# EAGLE library part IP175G (library IP175G)
5 Port 10/100 Ethernet Integrated Switch (85nm /Extreme Low Power, PWMT and AFT ) Source: Datasheet
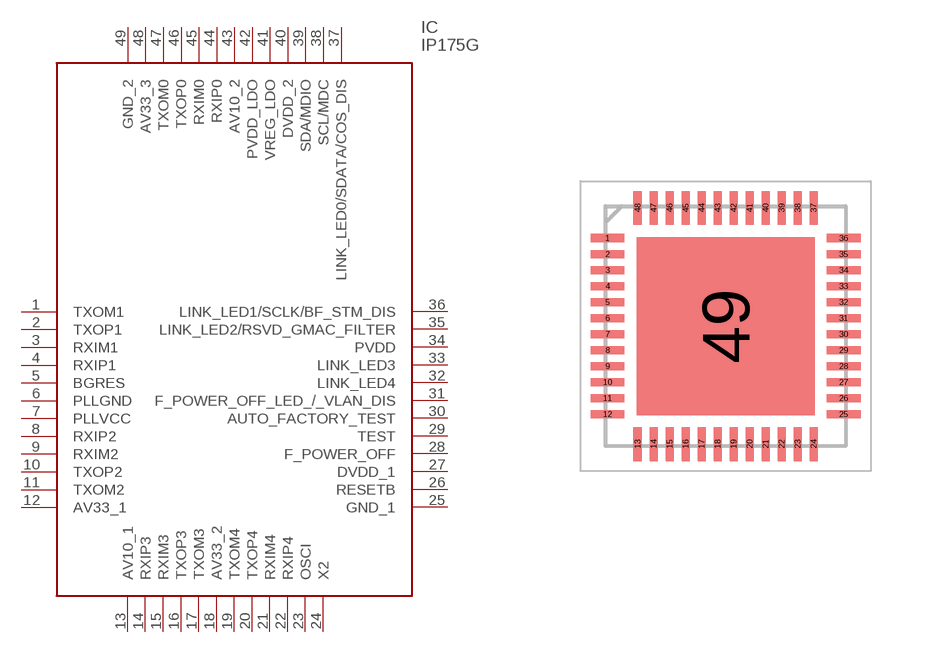
[diagram p0: symbol with the pads of QFN40P600X600X90-49N; footprint QFN40P600X600X90-49N]

Designator prefix IC

## IP175G (Description: 5 Port 10/100 Ethernet Integrated Switch (85nm /Extreme Low Power, PWMT and AFT ); Height: 0.9mm; Manufacturer_Name: IC+; Manufacturer_Part_Number: IP175G)  [QFN40P600X600X90-49N]
1  TXOM1
2  TXOP1
3  RXIM1
4  RXIP1
5  BGRES
6  PLLGND
7  PLLVCC
8  RXIP2
9  RXIM2
10  TXOP2
11  TXOM2
12  AV33_1
13  AV10_1
14  RXIP3
15  RXIM3
16  TXOP3
17  TXOM3
18  AV33_2
19  TXOM4
20  TXOP4
21  RXIM4
22  RXIP4
23  OSCI
24  X2
25  GND_1
26  RESETB
27  DVDD_1
28  F_POWER_OFF
29  TEST
30  AUTO_FACTORY_TEST
31  F_POWER_OFF_LED_/_VLAN_DIS
32  LINK_LED4
33  LINK_LED3
34  PVDD
35  LINK_LED2/RSVD_GMAC_FILTER
36  LINK_LED1/SCLK/BF_STM_DIS
37  LINK_LED0/SDATA/COS_DIS
38  SCL/MDC
39  SDA/MDIO
40  DVDD_2
41  VREG_LDO
42  PVDD_LDO
43  AV10_2
44  RXIP0
45  RXIM0
46  TXOP0
47  TXOM0
48  AV33_3
49  GND_2

## Footprint QFN40P600X600X90-49N (pad centres in mm)
48 QFN
smd 0.85 x 0.2: 1 -2.95,2.2; 2 -2.95,1.8; 3 -2.95,1.4; 4 -2.95,1; 5 -2.95,0.6; 6 -2.95,0.2; 7 -2.95,-0.2; 8 -2.95,-0.6; 9 -2.95,-1; 10 -2.95,-1.4; 11 -2.95,-1.8; 12 -2.95,-2.2; 25 2.95,-2.2; 26 2.95,-1.8; 27 2.95,-1.4; 28 2.95,-1; 29 2.95,-0.6; 30 2.95,-0.2; 31 2.95,0.2; 32 2.95,0.6; 33 2.95,1; 34 2.95,1.4; 35 2.95,1.8; 36 2.95,2.2
smd 0.2 x 0.85: 13 -2.2,-2.95; 14 -1.8,-2.95; 15 -1.4,-2.95; 16 -1,-2.95; 17 -0.6,-2.95; 18 -0.2,-2.95; 19 0.2,-2.95; 20 0.6,-2.95; 21 1,-2.95; 22 1.4,-2.95; 23 1.8,-2.95; 24 2.2,-2.95; 37 2.2,2.95; 38 1.8,2.95; 39 1.4,2.95; 40 1,2.95; 41 0.6,2.95; 42 0.2,2.95; 43 -0.2,2.95; 44 -0.6,2.95; 45 -1,2.95; 46 -1.4,2.95; 47 -1.8,2.95; 48 -2.2,2.95
smd 4.45 x 4.45: 49 0,0